# Altium schematic symbol library SENSOR_TEMPERATURA.SchLib: 1 symbol
Pins are listed as number, name and electrical type; pins without a type are passive.

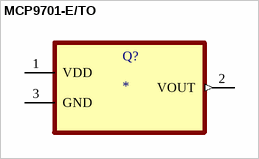
[diagram p0: symbol MCP9701-E/TO]

## MCP9701-E/TO
designator Q?
3 TO-92 4x4mm BAG, Linear Active Thermister (TM) IC (19.53mV/oC) | Microchip Technology Inc. MCP9701-E/TO; SnapEDA_Link: https://www.snapeda.com/parts/MCP9701-E/TO/Microchip/view-part/?ref=snap; Package: TO-92 Microchip; Value: *; MF: Microchip Technology; MP: MCP9701-E/TO; Check_prices: https://www.snapeda.com/parts/MCP9701-E/TO/Microchip/view-part/?ref=eda
footprint TO127P254X533-3
pins: 1 VDD (power), 2 VOUT (out), 3 GND